# Altium footprint library Desk.PcbLib: 18 footprints (part 1 of 2)
Each footprint in its own frame and in the unit in brackets; x right, y up, seen from the top. Pads: shape width x height; smd on the part's side, far side on the other; paste and mask are expansions set on the pad; w line width, h text height; cw(c..) or ccw(c..) is an arc to the next point about the centre after c.
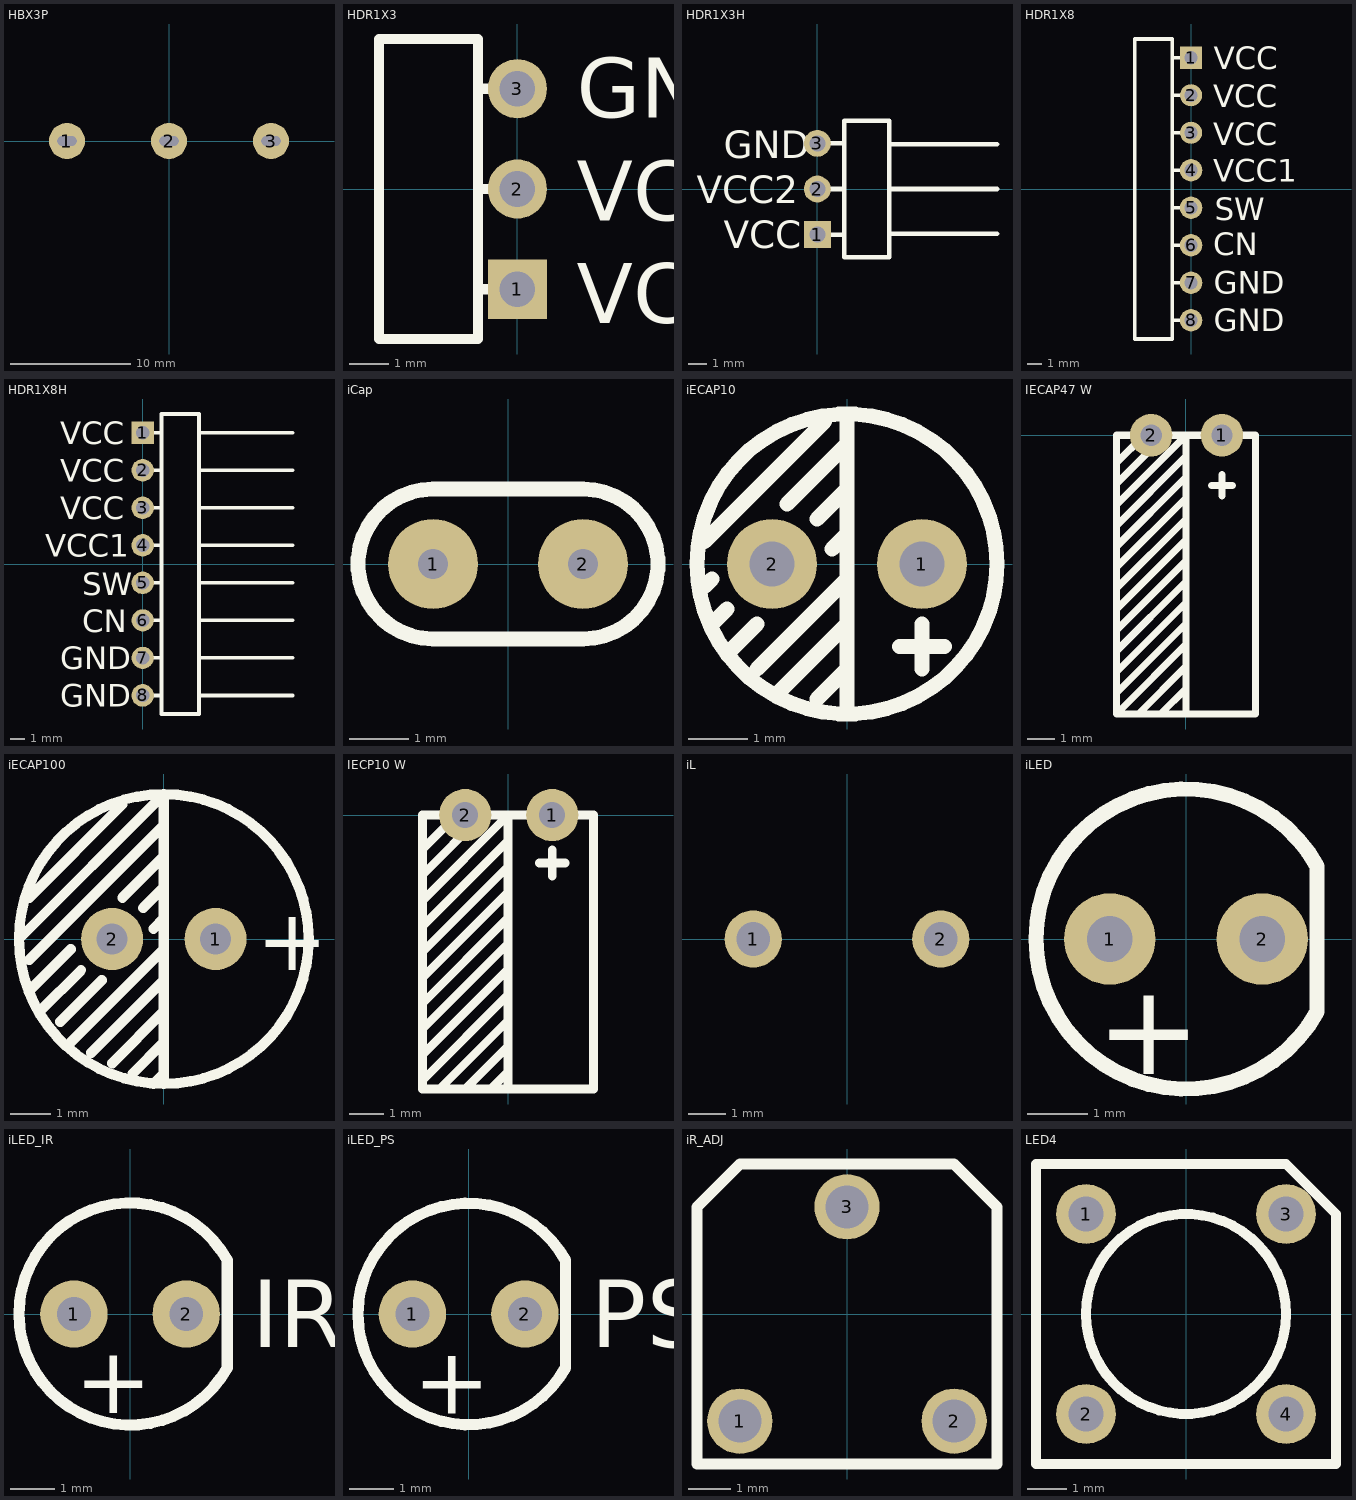
[diagram p0: the footprints below, top view; thin cyan lines are the x and y axes]

## HBX3P [mm]
pads (3):
  round 3 hole 0.8 slot 1.6 at 0 deg: 1(-8.5,0) 2(0,0) 3(8.5,0)
Bottom Overlay:
  lines w0.254: -12.5,-2 12.5,-2 ; -4.25,-10 -4.25,2 ; 4.25,-10 4.25,2 ; -12.5,-10 -12.5,2 12.5,2 12.5,-10 -12.5,-10
  text "VCC" at -6.5,2.5 h1.52
  text "VCC1" at 2.5,2.5 h1.52
  text "GND" at 10.5,2.5 h1.52

## HDR1X3 [mm]
pads (3):
  rect 1.5x1.5 hole 0.9: 1(0,-2.54)
  round 1.5 hole 0.9: 2(0,0) 3(0,2.54)
Top Overlay:
  lines w0.254: -0.96,-2.54 0,-2.54 ; -0.94,2.54 0,2.54 ; 0,0 -1,0 ; -1,0 -1,3.8 -3.5,3.8 -3.5,-3.8 -1,-3.8 -1,0
  text "VCC" at 1.5,-3.4 h1.52
  text "VCC2" at 1.5,-0.8 h1.52
  text "GND" at 1.5,1.8 h1.52

## HDR1X3H [mm]
pads (3):
  rect 1.5x1.5 hole 0.9: 1(0,-2.54)
  round 1.5 hole 0.9: 2(0,0) 3(0,2.54)
Top Overlay:
  lines w0.254: 0,-2.54 1.46,-2.54 ; 0,0 1.5,0 ; 0,2.54 1.46,2.54 ; 4,-2.5 10,-2.5 ; 4,0 10,0 ; 4,2.5 10,2.5 ; 1.5,0 1.5,3.8 4,3.8 4,-3.8 1.5,-3.8 1.5,0
  text "VCC" at -5.2,-3.3 h1.52
  text "VCC2" at -6.7,-0.8 h1.52
  text "GND" at -5.2,1.7 h1.52

## HDR1X8 [mm]
pads (8):
  rect 1.5x1.5 hole 0.9: 1(0,8.89)
  round 1.5 hole 0.9: 2(0,6.35) 3(0,3.81)
  round 1.524 hole 0.9: 4(0,1.27) 5(0,-1.27) 6(0,-3.81) 7(0,-6.35) 8(0,-8.89)
Top Overlay:
  lines w0.254: -1.27,-8.89 0,-8.89 ; -1.27,-6.35 0,-6.35 ; -1.27,-3.81 0,-3.81 ; -1.27,-1.27 0,-1.27 ; -1.27,1.27 0,1.27 ; -1.27,3.81 0,3.81 ; -1.27,6.35 0,6.35 ; -1.27,8.89 0,8.89 ; -3.81,-10.16 -3.81,10.16 -1.27,10.16 -1.27,-10.16 -3.81,-10.16
  text "VCC" at 1.524,8.128 h1.52
  text "SW" at 1.6,-2.1 h1.52
  text "CN" at 1.5,-4.5 h1.52
  text "VCC1" at 1.5,0.5 h1.52
  text "GND" at 1.524,-7.112 h1.52
  text "VCC" at 1.5,2.95 h1.52
  text "VCC" at 1.5,5.55 h1.52
  text "GND" at 1.524,-9.652 h1.52

## HDR1X8H [mm]
pads (8):
  rect 1.5x1.5 hole 0.9: 1(0,8.89)
  round 1.524 hole 0.9: 2(0,6.35) 3(0,3.81) 4(0,1.27) 5(0,-1.27) 8(0,-8.89)
  round 1.5 hole 0.9: 6(0,-3.81) 7(0,-6.35)
Top Overlay:
  lines w0.254: 0,-8.89 1.27,-8.89 ; 0,-6.35 1.27,-6.35 ; 0,-3.81 1.27,-3.81 ; 0,-1.27 1.27,-1.27 ; 0,1.27 1.27,1.27 ; 0,3.81 1.27,3.81 ; 0,6.35 1.27,6.35 ; 0,8.89 1.27,8.89 ; 3.81,-8.89 10.16,-8.89 ; 3.81,-6.35 10.16,-6.35 ; 3.81,-3.81 10.16,-3.81 ; 3.81,-1.27 10.16,-1.27 ; 3.81,1.27 10.16,1.27 ; 3.81,3.81 10.16,3.81 ; 3.81,6.35 10.16,6.35 ; 3.81,8.89 10.16,8.89 ; 1.27,-10.15 3.81,-10.15 3.81,10.16 1.27,10.16 1.27,-10.15
  text "GND" at -5.588,-9.652 h1.52
  text "VCC1" at -6.6,0.5 h1.52
  text "VCC" at -5.588,8.128 h1.52
  text "VCC" at -5.588,5.588 h1.52
  text "VCC" at -5.588,3.048 h1.52
  text "GND" at -5.588,-7.112 h1.52
  text "SW" at -4.1,-2.1 h1.52
  text "CN" at -4.1,-4.6 h1.52

## iCap [mil]
pads (2):
  round 60 hole 19.68: 1(-50,0) 2(50,0)
Top Overlay:
  lines w10: -50,-50 cw(c-50,0) -50,50 50,50 cw(c50,0) 50,-50 -50,-50

## iECAP10 [mil]
pads (2):
  round 60 hole 30: 1(50,0) 2(-50,0)
Top Overlay:
  circle w10: c0,0 r100
  lines w10: -95,-15 -90,-10 ; -95,15 -15,95 ; -90,-40 -80,-30 ; -80,-60 -60,-40 ; -60,-70 0,-10 ; -45,-85 -40,-80 0,-40 ; -40,40 0,80 ; -20,-90 0,-70 ; -20,30 0,50 ; -10,10 0,20 ; 0,-100 0,100 ; 35,-55 65,-55 ; 50,-70 50,-40

## IECAP47 W [mil]
pads (2):
  round 60 hole 30: 1(51.18,0) 2(-48.82,0)
Top Overlay:
  lines w10: -98.03,-305.12 0.39,-206.69 ; -98.03,-275.59 0.39,-177.17 ; -98.03,-246.06 0.39,-147.64 ; -98.03,-216.54 0.39,-118.11 ; -98.03,-187.01 0.39,-88.58 ; -98.03,-157.48 0.39,-59.06 ; -98.03,-127.95 0.39,-29.53 ; -98.03,-98.43 0.39,0 0.39,-393.7 ; -98.03,-68.9 -29.13,0 ; -98.03,-39.37 -58.66,0 ; -97.24,-363.39 0.39,-265.75 ; -96.26,-332.87 0.39,-236.22 ; -92.32,-387.99 0.39,-295.28 ; -66.93,-393.7 0,-326.77 0.39,-326.77 ; -35.43,-393.7 0,-358.27 0.39,-358.27 ; 36.18,-70.75 66.18,-70.75 ; 51.18,-85.75 51.18,-55.75 ; 0.39,-236.22 0.39,-236.22 ; -98.03,-393.7 98.82,-393.7 98.82,0 -98.03,0 -98.03,-393.7

## iECAP100 [mil]
pads (2):
  round 60 hole 30: 1(50,0) 2(-50,0)
Top Overlay:
  circle w10: c0,0 r140
  lines w10: -140,0 0,140 0,-140 ; -130,-50 -90,-10 ; -130,-20 0,110 ; -130,40 -40,130 ; -120,-70 -80,-30 ; -100,-80 -60,-40 ; -90,-100 0,-10 ; -70,-110 0,-40 ; -50,-120 0,-70 ; -40,40 0,80 ; -30,-130 0,-100 ; -20,30 0,50 ; -10,-140 0,-130 ; -10,10 0,20
  text "+" at 90,-30 h60

## IECP10 W [mil]
pads (2):
  round 60 hole 30: 1(50.79,0) 2(-49.21,0)
Top Overlay:
  lines w10: -98.43,-305.12 0,-206.69 ; -98.43,-275.59 0,-177.17 ; -98.43,-246.06 0,-147.64 ; -98.43,-216.54 0,-118.11 ; -98.43,-187.01 0,-88.58 ; -98.43,-157.48 0,-59.06 ; -98.43,-127.95 0,-29.53 ; -98.43,-98.43 0,0 0,-314.96 ; -98.43,-68.9 -29.53,0 ; -98.43,-39.37 -59.06,0 ; -78.74,-314.96 0,-236.22 ; -49.21,-314.96 0,-265.75 ; -19.68,-314.96 0,-295.28 ; 35.79,-55 65.79,-55 ; 50.79,-70 50.79,-40 ; 0,-236.22 0,-236.22 ; -98.43,-314.96 98.43,-314.96 98.43,0 -98.43,0 -98.43,-314.96

## iL [mil]
pads (2):
  round 60 hole 35.43: 1(-98.43,0) 2(98.43,0)
Bottom Overlay:
  circle w10: c0,0 r157.48

## iLED [mil]
pads (2):
  round 60 hole 30: 1(-50,0) 2(50,0)
Top Overlay:
  lines w10: 86.04,-47.8 cw(c0,0) 86.04,47.8 86.04,-47.8
  text "+" at -59.06,-88.58 h60

## iLED_IR [mil]
pads (2):
  round 60 hole 30: 1(-50,0) 2(50,0)
Top Overlay:
  lines w10: 86.47,-48.04 cw(c0,0) 86.47,48.04 86.47,-48.04
  text "+" at -49.21,-88.58 h60
  text "IR" at 108.27,-29.53 h60

## iLED_PS [mil]
pads (2):
  round 60 hole 30: 1(-50,0) 2(50,0)
Top Overlay:
  lines w10: 86.04,-47.8 cw(c0,0) 86.04,47.8 86.04,-47.8
  text "+" at -49.21,-88.58 h60
  text "PS" at 108.27,-29.53 h60

## iR_ADJ [mm]
pads (3):
  round 1.524 hole 1: 1(-2.5,-2.5) 2(2.5,-2.5) 3(0,2.5)
Top Overlay:
  lines w0.254: -3.5,-3.5 -3.5,2.5 -2.5,3.5 2.5,3.5 3.5,2.5 3.5,-3.5 -3.5,-3.5

## LED4 [mil]
pads (4):
  round 60 hole 35.43: 1(-100,100) 2(-100,-100) 3(100,100) 4(100,-100)
Top Overlay:
  circle w10: c0,0 r100
  lines w10: -150,-150 -150,150 100,150 150,100 150,-150 -150,-150